# Altium footprint library RJ45.PcbLib: 2 footprints
Each footprint in its own frame and in the unit in brackets; x right, y up, seen from the top. Pads: shape width x height; smd on the part's side, far side on the other; paste and mask are expansions set on the pad; w line width, h text height; cw(c..) or ccw(c..) is an arc to the next point about the centre after c.
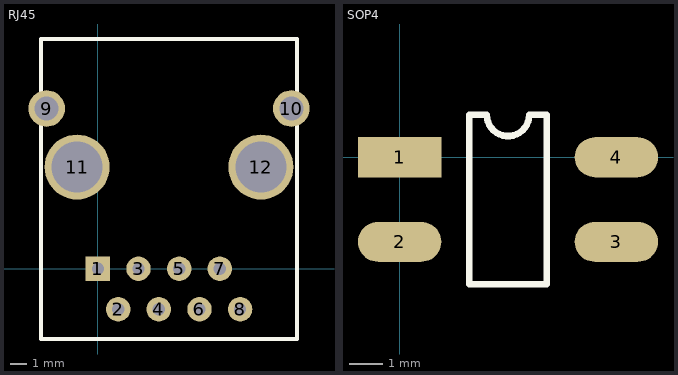
[diagram p0: the footprints below, top view; thin cyan lines are the x and y axes]

## RJ45 [mil]
pads (12):
  rect 60x60 hole 30: 1(0,0)
  round 60 hole 30: 2(50,-100) 3(100,0) 4(150,-100) 5(200,0) 6(250,-100) 7(300,0) 8(350,-100)
  round 90 hole 59: 9(-126,394) 10(476,394)
  round 160 hole 125: 11(-51,250) 12(401,250)
Top Overlay:
  lines w10: -140,-173 490,-173 490,565 -140,565 -140,-173

## SOP4 [mm]
pads (4):
  rect 2.5x1.2 smd: 1(0,0)
  oval 2.5x1.2 smd: 2(0,-2.54) 3(6.5,-2.54) 4(6.5,0)
Top Overlay:
  lines w0.2: 2.085,-3.81 2.085,1.27 2.615,1.27 ccw(c3.25,1.27) 3.885,1.27 4.415,1.27 4.415,-3.81 2.085,-3.81